# Altium footprint library 开关.PcbLib: 17 footprints (part 2 of 2)
Each footprint in its own frame and in the unit in brackets; x right, y up, seen from the top. Pads: shape width x height; smd on the part's side, far side on the other; paste and mask are expansions set on the pad; w line width, h text height; cw(c..) or ccw(c..) is an arc to the next point about the centre after c.
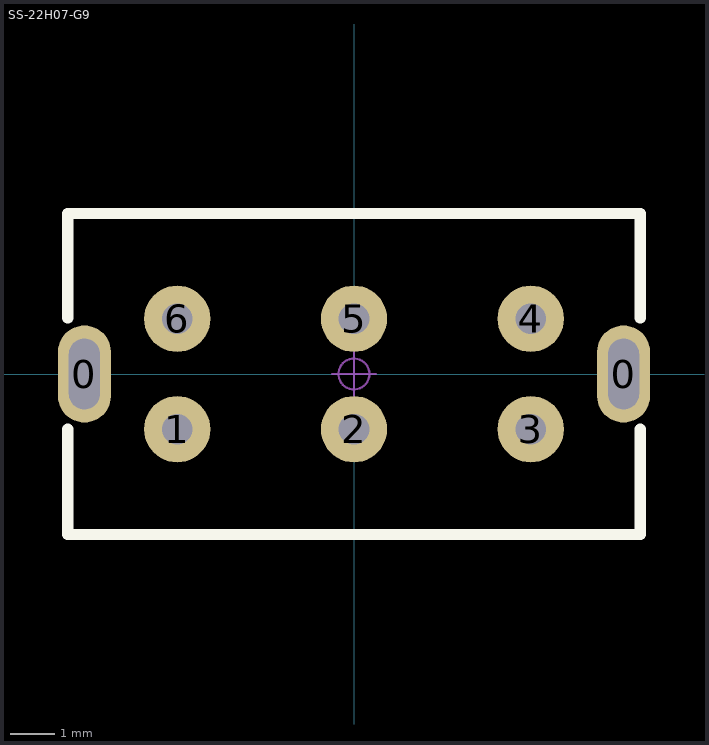
[diagram p1: the footprint, top view; thin cyan lines are the x and y axes]

## SS-22H07-G9 [mm] "柄长9mm，12.7x7x4.7mm(长宽高)，脚距：4mm"
pads (8):
  oval 1.2x2.2 hole 0.7 slot 1.6 at 90 deg: 0(-6.1,0) 0(6.1,0)
  round 1.5 hole 0.7: 1(-4,-1.25) 2(0,-1.25) 3(4,-1.25) 4(4,1.25) 5(0,1.25) 6(-4,1.25)
Top Overlay:
  lines w0.25: -6.477,-1.25 -6.477,-3.632 6.477,-3.632 6.477,-1.25 ; -6.477,1.27 -6.477,3.632 6.477,3.632 6.477,1.27
Mechanical 15:
  circle w0.05: c0,0 r0.35
  lines w0.05: -0.5,0 0.5,0 ; 0,-0.5 0,0.5
3D body: height 13.7, standoff -3.3, extent -6.351,-3.501 6.351,3.501